# EAGLE library part MBED-IF01 (library mbed-ics)
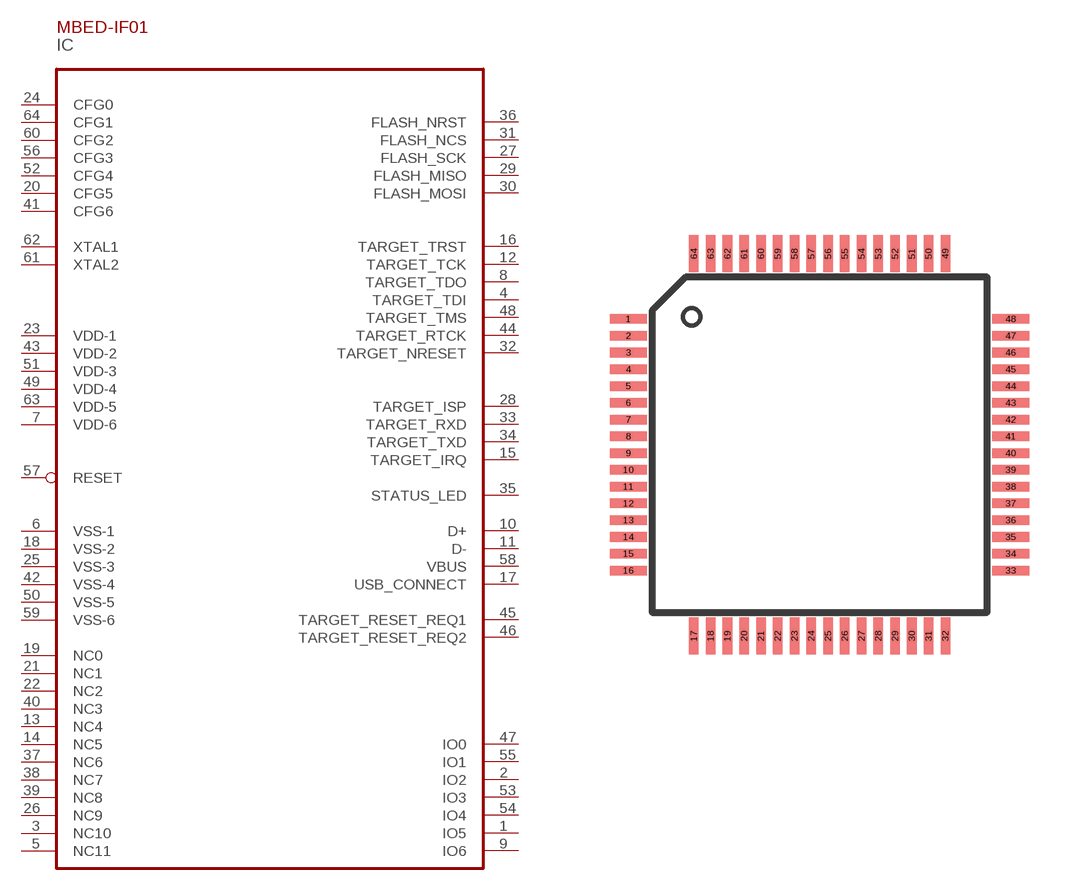
[diagram p14: symbol with the pads of LQFP64; footprint LQFP64]

Designator prefix IC

## MBED-IF01  [LQFP64]
1  IO5
2  IO2
3  NC10
4  TARGET_TDI
5  NC11
6  VSS-1  pwr
7  VDD-6  pwr
8  TARGET_TDO
9  IO6
10  D+
11  D-
12  TARGET_TCK
13  NC4
14  NC5
15  TARGET_IRQ
16  TARGET_TRST
17  USB_CONNECT
18  VSS-2  pwr
19  NC0
20  CFG5
21  NC1
22  NC2
23  VDD-1  pwr
24  CFG0
25  VSS-3  pwr
26  NC9
27  FLASH_SCK
28  TARGET_ISP
29  FLASH_MISO
30  FLASH_MOSI
31  FLASH_NCS
32  TARGET_NRESET
33  TARGET_RXD
34  TARGET_TXD
35  STATUS_LED
36  FLASH_NRST
37  NC6
38  NC7
39  NC8
40  NC3
41  CFG6
42  VSS-4  pwr
43  VDD-2  pwr
44  TARGET_RTCK
45  TARGET_RESET_REQ1
46  TARGET_RESET_REQ2
47  IO0
48  TARGET_TMS
49  VDD-4  pwr
50  VSS-5  pwr
51  VDD-3  pwr
52  CFG4
53  IO3
54  IO4
55  IO1
56  CFG3
57  RESET
58  VBUS
59  VSS-6  pwr
60  CFG2
61  XTAL2
62  XTAL1
63  VDD-5  pwr
64  CFG1

## Footprint LQFP64 (pad centres in mm)
smd 1.1 x 0.285: 1 -5.7,3.75; 2 -5.7,3.25; 3 -5.7,2.75; 4 -5.7,2.25; 5 -5.7,1.75; 6 -5.7,1.25; 7 -5.7,0.75; 8 -5.7,0.25; 9 -5.7,-0.25; 10 -5.7,-0.75; 11 -5.7,-1.25; 12 -5.7,-1.75; 13 -5.7,-2.25; 14 -5.7,-2.75; 15 -5.7,-3.25; 16 -5.7,-3.75; 33 5.7,-3.75; 34 5.7,-3.25; 35 5.7,-2.75; 36 5.7,-2.25; 37 5.7,-1.75; 38 5.7,-1.25; 39 5.7,-0.75; 40 5.7,-0.25; 41 5.7,0.25; 42 5.7,0.75; 43 5.7,1.25; 44 5.7,1.75; 45 5.7,2.25; 46 5.7,2.75; 47 5.7,3.25; 48 5.7,3.75
smd 0.285 x 1.1: 17 -3.75,-5.7; 18 -3.25,-5.7; 19 -2.75,-5.7; 20 -2.25,-5.7; 21 -1.75,-5.7; 22 -1.25,-5.7; 23 -0.75,-5.7; 24 -0.25,-5.7; 25 0.25,-5.7; 26 0.75,-5.7; 27 1.25,-5.7; 28 1.75,-5.7; 29 2.25,-5.7; 30 2.75,-5.7; 31 3.25,-5.7; 32 3.75,-5.7; 49 3.75,5.7; 50 3.25,5.7; 51 2.75,5.7; 52 2.25,5.7; 53 1.75,5.7; 54 1.25,5.7; 55 0.75,5.7; 56 0.25,5.7; 57 -0.25,5.7; 58 -0.75,5.7; 59 -1.25,5.7; 60 -1.75,5.7; 61 -2.25,5.7; 62 -2.75,5.7; 63 -3.25,5.7; 64 -3.75,5.7